# Altium schematic symbol library DRV8873SPWPR.SchLib: 1 symbol
Pins are listed as number, name and electrical type; pins without a type are passive.

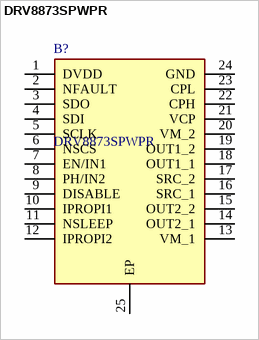
[diagram p0: symbol DRV8873SPWPR]

## DRV8873SPWPR
designator B?
Motor / Motion / Ignition Controllers & Drivers 10A H-Bridge Motor Driver with Integrated Current Sensing and Current Sense Output; Manufacturer_Name: Texas Instruments; Geometry.Height: 1.2mm; Mouser Part Number: 595-DRV8873SPWPR; Mouser Price/Stock: https://www.mouser.co.uk/ProductDetail/Texas-Instruments/DRV8873SPWPR?qs=0lSvoLzn4L%2FOilSh2RhZEg%3D%3D; Manufacturer_Part_Number: DRV8873SPWPR; Datasheet Link: http://www.ti.com/lit/ds/symlink/drv8873.pdf
footprint SOP65P640X120-25N
pins: 1 DVDD, 2 NFAULT, 3 SDO, 4 SDI, 5 SCLK, 6 NSCS, 7 EN/IN1, 8 PH/IN2, 9 DISABLE, 10 IPROPI1, 11 NSLEEP, 12 IPROPI2, 13 VM_1, 14 OUT2_1, 15 OUT2_2, 16 SRC_1, 17 SRC_2, 18 OUT1_1, 19 OUT1_2, 20 VM_2, 21 VCP, 22 CPH, 23 CPL, 24 GND, 25 EP